# Altium integrated library Components - PNP Digital.IntLib: 1 symbol
Pins are listed as number, name and electrical type; pins without a type are passive.

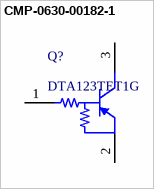
[diagram p0: symbol CMP-0630-00182-1]

## CMP-0630-00182-1
designator Q?, comment DTA123TET1G
Digital Transistor (BRT), R1=2.2 kOhm, R2=infinity kOhm, PNP Transistor, 3-Pin SC-75, Pb-Free, Tape and Reel; Manufacturer: On Semiconductor; V(BR)CEO Min (V): 50; IC Continuous (A): 0.1; hFE Min: 160; Packing: Tape and Reel; DatasheetVersion: Rev. 2; Polarity: PNP; PackageReference: SC-75-3-463-01; PackageDescription: 3-Pin Small Outline Transistor, Body 1.6 x 0.8 mm, Pitch 0.5 mm; ComponentLink3URL: http://www.onsemi.com/pub_link/Collateral/463-01.PDF; RoHS: TRUE; ComponentLink2Description: Datasheet; Mounting Technology: Surface Mount; ComponentLink1URL: http://www.onsemi.com/; PartNumber: DTA123TET1G; ComponentLink3Description: Package Specification; ComponentLink2URL: http://www.onsemi.com/pub_link/Collateral/DTA123T-D.PDF; ComponentLink1Description: Manufacturer URL; PackageVersion: Rev. F, 07/2005
footprint ONSC-SC-75-3-463-01_V (SOT23, 3-Leads, Body 1.6x0.8mm, Pitch 0.5mm)
pins: 1 B, 2 E, 3 C